# Altium footprint library TI PCB.PCBLIB: 93 footprints (part 4 of 6)
Each footprint in its own frame and in the unit in brackets; x right, y up, seen from the top. Pads: shape width x height; smd on the part's side, far side on the other; paste and mask are expansions set on the pad; w line width, h text height; cw(c..) or ccw(c..) is an arc to the next point about the centre after c.
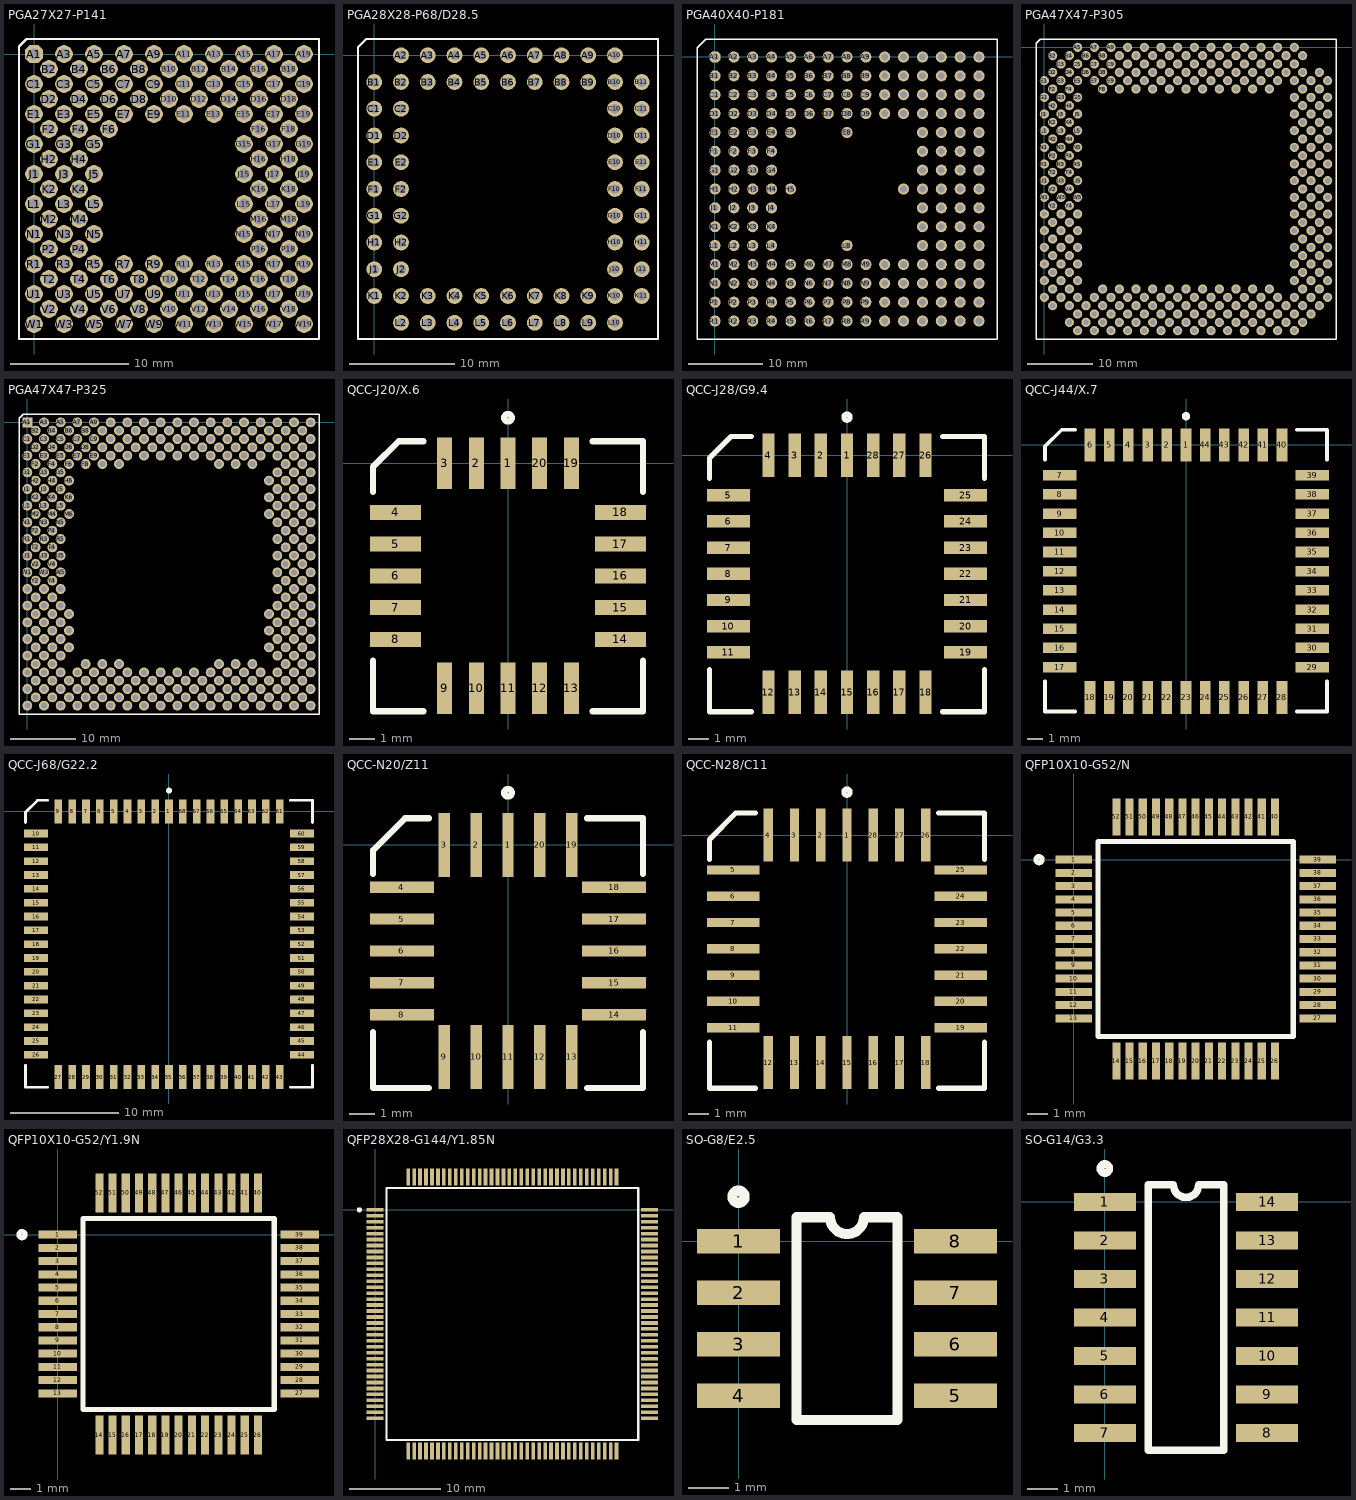
[diagram p3: the footprints below, top view; thin cyan lines are the x and y axes]

## PGA27X27-P141 [mm]
pads (141):
  oct 1.5x1.5 hole 0.9: A1(0,0)
  round 1.5 hole 0.9: A3(2.54,0) A5(5.08,0) A7(7.62,0) A9(10.16,0) A11(12.7,0) A13(15.24,0) A15(17.78,0) A17(20.32,0) A19(22.86,0) B2(1.27,-1.27) B4(3.81,-1.27) B6(6.35,-1.27) B8(8.89,-1.27) B10(11.43,-1.27) B12(13.97,-1.27) B14(16.51,-1.27) B16(19.05,-1.27) B18(21.59,-1.27) C1(0,-2.54) C3(2.54,-2.54) C5(5.08,-2.54) C7(7.62,-2.54) C9(10.16,-2.54) C11(12.7,-2.54) C13(15.24,-2.54) C15(17.78,-2.54) C17(20.32,-2.54) C19(22.86,-2.54) D2(1.27,-3.81) D4(3.81,-3.81) D6(6.35,-3.81) D8(8.89,-3.81) D10(11.43,-3.81) D12(13.97,-3.81) D14(16.51,-3.81) D16(19.05,-3.81) D18(21.59,-3.81) E1(0,-5.08) E3(2.54,-5.08) E5(5.08,-5.08) E7(7.62,-5.08) E9(10.16,-5.08) E11(12.7,-5.08) E13(15.24,-5.08) E15(17.78,-5.08) E17(20.32,-5.08) E19(22.86,-5.08) F2(1.27,-6.35) F4(3.81,-6.35) F6(6.35,-6.35) F16(19.05,-6.35) F18(21.59,-6.35) G1(0,-7.62) G3(2.54,-7.62) G5(5.08,-7.62) G15(17.78,-7.62) G17(20.32,-7.62) G19(22.86,-7.62) H2(1.27,-8.89) H4(3.81,-8.89) H16(19.05,-8.89) H18(21.59,-8.89) J1(0,-10.16) J3(2.54,-10.16) J5(5.08,-10.16) J15(17.78,-10.16) J17(20.32,-10.16) J19(22.86,-10.16) K2(1.27,-11.43) K4(3.81,-11.43) K16(19.05,-11.43) K18(21.59,-11.43) L1(0,-12.7) L3(2.54,-12.7) L5(5.08,-12.7) L15(17.78,-12.7) L17(20.32,-12.7) L19(22.86,-12.7) M2(1.27,-13.97) M4(3.81,-13.97) M16(19.05,-13.97) M18(21.59,-13.97) N1(0,-15.24) N3(2.54,-15.24) N5(5.08,-15.24) N15(17.78,-15.24) N17(20.32,-15.24) N19(22.86,-15.24) P2(1.27,-16.51) P4(3.81,-16.51) P16(19.05,-16.51) P18(21.59,-16.51) R1(0,-17.78) R3(2.54,-17.78) R5(5.08,-17.78) R7(7.62,-17.78) R9(10.16,-17.78) R11(12.7,-17.78) R13(15.24,-17.78) R15(17.78,-17.78) R17(20.32,-17.78) R19(22.86,-17.78) T2(1.27,-19.05) T4(3.81,-19.05) T6(6.35,-19.05) T8(8.89,-19.05) T10(11.43,-19.05) T12(13.97,-19.05) T14(16.51,-19.05) T16(19.05,-19.05) T18(21.59,-19.05) U1(0,-20.32) U3(2.54,-20.32) U5(5.08,-20.32) U7(7.62,-20.32) U9(10.16,-20.32) U11(12.7,-20.32) U13(15.24,-20.32) U15(17.78,-20.32) U17(20.32,-20.32) U19(22.86,-20.32) V2(1.27,-21.59) V4(3.81,-21.59) V6(6.35,-21.59) V8(8.89,-21.59) V10(11.43,-21.59) V12(13.97,-21.59) V14(16.51,-21.59) V16(19.05,-21.59) V18(21.59,-21.59) W1(0,-22.86) W3(2.54,-22.86) W5(5.08,-22.86) W7(7.62,-22.86) W9(10.16,-22.86) W11(12.7,-22.86) W13(15.24,-22.86) W15(17.78,-22.86) W17(20.32,-22.86) W19(22.86,-22.86)
Top Overlay:
  lines w0.2: -1.27,-24.13 -1.27,0.635 -0.635,1.27 24.13,1.27 24.13,-24.13 -1.27,-24.13

## PGA28X28-P68/D28.5 [mm]
pads (68):
  round 1.5 hole 0.9: A2(2.54,0) A3(5.08,0) A4(7.62,0) A5(10.16,0) A6(12.7,0) A7(15.24,0) A8(17.78,0) A9(20.32,0) A10(22.86,0) B1(0,-2.54) B2(2.54,-2.54) B3(5.08,-2.54) B4(7.62,-2.54) B5(10.16,-2.54) B6(12.7,-2.54) B7(15.24,-2.54) B8(17.78,-2.54) B9(20.32,-2.54) B10(22.86,-2.54) B11(25.4,-2.54) C1(0,-5.08) C2(2.54,-5.08) C10(22.86,-5.08) C11(25.4,-5.08) D1(0,-7.62) D2(2.54,-7.62) D10(22.86,-7.62) D11(25.4,-7.62) E1(0,-10.16) E2(2.54,-10.16) E10(22.86,-10.16) E11(25.4,-10.16) F1(0,-12.7) F2(2.54,-12.7) F10(22.86,-12.7) F11(25.4,-12.7) G1(0,-15.24) G2(2.54,-15.24) G10(22.86,-15.24) G11(25.4,-15.24) H1(0,-17.78) H2(2.54,-17.78) H10(22.86,-17.78) H11(25.4,-17.78) J1(0,-20.32) J2(2.54,-20.32) J10(22.86,-20.32) J11(25.4,-20.32) K1(0,-22.86) K2(2.54,-22.86) K3(5.08,-22.86) K4(7.62,-22.86) K5(10.16,-22.86) K6(12.7,-22.86) K7(15.24,-22.86) K8(17.78,-22.86) K9(20.32,-22.86) K10(22.86,-22.86) K11(25.4,-22.86) L2(2.54,-25.4) L3(5.08,-25.4) L4(7.62,-25.4) L5(10.16,-25.4) L6(12.7,-25.4) L7(15.24,-25.4) L8(17.78,-25.4) L9(20.32,-25.4) L10(22.86,-25.4)
Top Overlay:
  lines w0.2: -1.55,-26.95 -1.55,0.775 -0.775,1.55 26.95,1.55 26.95,-26.95 -1.55,-26.95

## PGA40X40-P181 [mm]
pads (181):
  oct 1.5x1.5 hole 0.9: A1(0,0)
  round 1.5 hole 0.9: A2(2.54,0) A3(5.08,0) A4(7.62,0) A5(10.16,0) A6(12.7,0) A7(15.24,0) A8(17.78,0) A9(20.32,0) A10(22.86,0) A11(25.4,0) A12(27.94,0) A13(30.48,0) A14(33.02,0) A15(35.56,0) B1(0,-2.54) B2(2.54,-2.54) B3(5.08,-2.54) B4(7.62,-2.54) B5(10.16,-2.54) B6(12.7,-2.54) B7(15.24,-2.54) B8(17.78,-2.54) B9(20.32,-2.54) B10(22.86,-2.54) B11(25.4,-2.54) B12(27.94,-2.54) B13(30.48,-2.54) B14(33.02,-2.54) B15(35.56,-2.54) C1(0,-5.08) C2(2.54,-5.08) C3(5.08,-5.08) C4(7.62,-5.08) C5(10.16,-5.08) C6(12.7,-5.08) C7(15.24,-5.08) C8(17.78,-5.08) C9(20.32,-5.08) C10(22.86,-5.08) C11(25.4,-5.08) C12(27.94,-5.08) C13(30.48,-5.08) C14(33.02,-5.08) C15(35.56,-5.08) D1(0,-7.62) D2(2.54,-7.62) D3(5.08,-7.62) D4(7.62,-7.62) D5(10.16,-7.62) D6(12.7,-7.62) D7(15.24,-7.62) D8(17.78,-7.62) D9(20.32,-7.62) D10(22.86,-7.62) D11(25.4,-7.62) D12(27.94,-7.62) D13(30.48,-7.62) D14(33.02,-7.62) D15(35.56,-7.62) E1(0,-10.16) E2(2.54,-10.16) E3(5.08,-10.16) E4(7.62,-10.16) E5(10.16,-10.16) E8(17.78,-10.16) E12(27.94,-10.16) E13(30.48,-10.16) E14(33.02,-10.16) E15(35.56,-10.16) F1(0,-12.7) F2(2.54,-12.7) F3(5.08,-12.7) F4(7.62,-12.7) F12(27.94,-12.7) F13(30.48,-12.7) F14(33.02,-12.7) F15(35.56,-12.7) G1(0,-15.24) G2(2.54,-15.24) G3(5.08,-15.24) G4(7.62,-15.24) G12(27.94,-15.24) G13(30.48,-15.24) G14(33.02,-15.24) G15(35.56,-15.24) H1(0,-17.78) H2(2.54,-17.78) H3(5.08,-17.78) H4(7.62,-17.78) H5(10.16,-17.78) H11(25.4,-17.78) H12(27.94,-17.78) H13(30.48,-17.78) H14(33.02,-17.78) H15(35.56,-17.78) J1(0,-20.32) J2(2.54,-20.32) J3(5.08,-20.32) J4(7.62,-20.32) J12(27.94,-20.32) J13(30.48,-20.32) J14(33.02,-20.32) J15(35.56,-20.32) K1(0,-22.86) K2(2.54,-22.86) K3(5.08,-22.86) K4(7.62,-22.86) K12(27.94,-22.86) K13(30.48,-22.86) K14(33.02,-22.86) K15(35.56,-22.86) L1(0,-25.4) L2(2.54,-25.4) L3(5.08,-25.4) L4(7.62,-25.4) L8(17.78,-25.4) L12(27.94,-25.4) L13(30.48,-25.4) L14(33.02,-25.4) L15(35.56,-25.4) M1(0,-27.94) M2(2.54,-27.94) M3(5.08,-27.94) M4(7.62,-27.94) M5(10.16,-27.94) M6(12.7,-27.94) M7(15.24,-27.94) M8(17.78,-27.94) M9(20.32,-27.94) M10(22.86,-27.94) M11(25.4,-27.94) M12(27.94,-27.94) M13(30.48,-27.94) M14(33.02,-27.94) M15(35.56,-27.94) N1(0,-30.48) N2(2.54,-30.48) N3(5.08,-30.48) N4(7.62,-30.48) N5(10.16,-30.48) N6(12.7,-30.48) N7(15.24,-30.48) N8(17.78,-30.48) N9(20.32,-30.48) N10(22.86,-30.48) N11(25.4,-30.48) N12(27.94,-30.48) N13(30.48,-30.48) N14(33.02,-30.48) N15(35.56,-30.48) P1(0,-33.02) P2(2.54,-33.02) P3(5.08,-33.02) P4(7.62,-33.02) P5(10.16,-33.02) P6(12.7,-33.02) P7(15.24,-33.02) P8(17.78,-33.02) P9(20.32,-33.02) P10(22.86,-33.02) P11(25.4,-33.02) P12(27.94,-33.02) P13(30.48,-33.02) P14(33.02,-33.02) P15(35.56,-33.02) R1(0,-35.56) R2(2.54,-35.56) R3(5.08,-35.56) R4(7.62,-35.56) R5(10.16,-35.56) R6(12.7,-35.56) R7(15.24,-35.56) R8(17.78,-35.56) R9(20.32,-35.56) R10(22.86,-35.56) R11(25.4,-35.56) R12(27.94,-35.56) R13(30.48,-35.56) R14(33.02,-35.56) R15(35.56,-35.56)
Top Overlay:
  lines w0.2: -2.42,-37.98 -2.42,1.21 -1.21,2.42 37.98,2.42 37.98,-37.98 -2.42,-37.98

## PGA47X47-P305 [mm]
pads (305):
  round 1.4 hole 0.8: A5(5.08,0) A7(7.62,0) A9(10.16,0) A11(12.7,0) A13(15.24,0) A15(17.78,0) A17(20.32,0) A19(22.86,0) A21(25.4,0) A23(27.94,0) A25(30.48,0) A27(33.02,0) A29(35.56,0) A31(38.1,0) AA1(0,-25.4) AA3(2.54,-25.4) AA5(5.08,-25.4) AA31(38.1,-25.4) AA33(40.64,-25.4) AA35(43.18,-25.4) AB2(1.27,-26.67) AB4(3.81,-26.67) AB32(39.37,-26.67) AB34(41.91,-26.67) AC1(0,-27.94) AC3(2.54,-27.94) AC5(5.08,-27.94) AC31(38.1,-27.94) AC33(40.64,-27.94) AC35(43.18,-27.94) AD2(1.27,-29.21) AD4(3.81,-29.21) AD32(39.37,-29.21) AD34(41.91,-29.21) AE1(0,-30.48) AE3(2.54,-30.48) AE5(5.08,-30.48) AE31(38.1,-30.48) AE33(40.64,-30.48) AE35(43.18,-30.48) AF2(1.27,-31.75) AF4(3.81,-31.75) AF32(39.37,-31.75) AF34(41.91,-31.75) AG1(0,-33.02) AG3(2.54,-33.02) AG5(5.08,-33.02) AG31(38.1,-33.02) AG33(40.64,-33.02) AG35(43.18,-33.02) AH2(1.27,-34.29) AH4(3.81,-34.29) AH32(39.37,-34.29) AH34(41.91,-34.29) AJ1(0,-35.56) AJ3(2.54,-35.56) AJ5(5.08,-35.56) AJ31(38.1,-35.56) AJ33(40.64,-35.56) AJ35(43.18,-35.56) AK2(1.27,-36.83) AK4(3.81,-36.83) AK8(8.89,-36.83) AK10(11.43,-36.83) AK12(13.97,-36.83) AK14(16.51,-36.83) AK16(19.05,-36.83) AK18(21.59,-36.83) AK20(24.13,-36.83) AK22(26.67,-36.83) AK24(29.21,-36.83) AK26(31.75,-36.83) AK28(34.29,-36.83) AK32(39.37,-36.83) AK34(41.91,-36.83) AL1(0,-38.1) AL3(2.54,-38.1) AL5(5.08,-38.1) AL7(7.62,-38.1) AL9(10.16,-38.1) AL11(12.7,-38.1) AL13(15.24,-38.1) AL15(17.78,-38.1) AL17(20.32,-38.1) AL19(22.86,-38.1) AL21(25.4,-38.1) AL23(27.94,-38.1) AL25(30.48,-38.1) AL27(33.02,-38.1) AL29(35.56,-38.1) AL31(38.1,-38.1) AL33(40.64,-38.1) AL35(43.18,-38.1) AM2(1.27,-39.37) AM4(3.81,-39.37) AM6(6.35,-39.37) AM8(8.89,-39.37) AM10(11.43,-39.37) AM12(13.97,-39.37) AM14(16.51,-39.37) AM16(19.05,-39.37) AM18(21.59,-39.37) AM20(24.13,-39.37) AM22(26.67,-39.37) AM24(29.21,-39.37) AM26(31.75,-39.37) AM28(34.29,-39.37) AM30(36.83,-39.37) AM32(39.37,-39.37) AM34(41.91,-39.37) AN5(5.08,-40.64) AN7(7.62,-40.64) AN9(10.16,-40.64) AN11(12.7,-40.64) AN13(15.24,-40.64) AN15(17.78,-40.64) AN17(20.32,-40.64) AN19(22.86,-40.64) AN21(25.4,-40.64) AN23(27.94,-40.64) AN25(30.48,-40.64) AN27(33.02,-40.64) AN29(35.56,-40.64) AN31(38.1,-40.64) AN33(40.64,-40.64) AP4(3.81,-41.91) AP6(6.35,-41.91) AP8(8.89,-41.91) AP10(11.43,-41.91) AP12(13.97,-41.91) AP14(16.51,-41.91) AP16(19.05,-41.91) AP18(21.59,-41.91) AP20(24.13,-41.91) AP22(26.67,-41.91) AP24(29.21,-41.91) AP26(31.75,-41.91) AP28(34.29,-41.91) AP30(36.83,-41.91) AP32(39.37,-41.91) AR5(5.08,-43.18) AR7(7.62,-43.18) AR9(10.16,-43.18) AR11(12.7,-43.18) AR13(15.24,-43.18) AR15(17.78,-43.18) AR17(20.32,-43.18) AR19(22.86,-43.18) AR21(25.4,-43.18) AR23(27.94,-43.18) AR25(30.48,-43.18) AR27(33.02,-43.18) AR29(35.56,-43.18) AR31(38.1,-43.18) B2(1.27,-1.27) B4(3.81,-1.27) B6(6.35,-1.27) B8(8.89,-1.27) B10(11.43,-1.27) B12(13.97,-1.27) B14(16.51,-1.27) B16(19.05,-1.27) B18(21.59,-1.27) B20(24.13,-1.27) B22(26.67,-1.27) B24(29.21,-1.27) B26(31.75,-1.27) B28(34.29,-1.27) B30(36.83,-1.27) B32(39.37,-1.27) C3(2.54,-2.54) C5(5.08,-2.54) C7(7.62,-2.54) C9(10.16,-2.54) C11(12.7,-2.54) C13(15.24,-2.54) C15(17.78,-2.54) C17(20.32,-2.54) C19(22.86,-2.54) C21(25.4,-2.54) C23(27.94,-2.54) C25(30.48,-2.54) C27(33.02,-2.54) C29(35.56,-2.54) C31(38.1,-2.54) D2(1.27,-3.81) D4(3.81,-3.81) D6(6.35,-3.81) D8(8.89,-3.81) D10(11.43,-3.81) D12(13.97,-3.81) D14(16.51,-3.81) D16(19.05,-3.81) D18(21.59,-3.81) D20(24.13,-3.81) D22(26.67,-3.81) D24(29.21,-3.81) D26(31.75,-3.81) D28(34.29,-3.81) D30(36.83,-3.81) D32(39.37,-3.81) D34(41.91,-3.81) E1(0,-5.08) E3(2.54,-5.08) E5(5.08,-5.08) E7(7.62,-5.08) E9(10.16,-5.08) E11(12.7,-5.08) E13(15.24,-5.08) E15(17.78,-5.08) E17(20.32,-5.08) E19(22.86,-5.08) E21(25.4,-5.08) E23(27.94,-5.08) E25(30.48,-5.08) E27(33.02,-5.08) E29(35.56,-5.08) E31(38.1,-5.08) E33(40.64,-5.08) E35(43.18,-5.08) F2(1.27,-6.35) F4(3.81,-6.35) F8(8.89,-6.35) F10(11.43,-6.35) F12(13.97,-6.35) F14(16.51,-6.35) F16(19.05,-6.35) F18(21.59,-6.35) F20(24.13,-6.35) F22(26.67,-6.35) F24(29.21,-6.35) F26(31.75,-6.35) F28(34.29,-6.35) F32(39.37,-6.35) F34(41.91,-6.35) G1(0,-7.62) G3(2.54,-7.62) G5(5.08,-7.62) G31(38.1,-7.62) G33(40.64,-7.62) G35(43.18,-7.62) H2(1.27,-8.89) H4(3.81,-8.89) H32(39.37,-8.89) H34(41.91,-8.89) J1(0,-10.16) J3(2.54,-10.16) J5(5.08,-10.16) J31(38.1,-10.16) J33(40.64,-10.16) J35(43.18,-10.16) K2(1.27,-11.43) K4(3.81,-11.43) K32(39.37,-11.43) K34(41.91,-11.43) L1(0,-12.7) L3(2.54,-12.7) L5(5.08,-12.7) L31(38.1,-12.7) L33(40.64,-12.7) L35(43.18,-12.7) M2(1.27,-13.97) M4(3.81,-13.97) M32(39.37,-13.97) M34(41.91,-13.97) N1(0,-15.24) N3(2.54,-15.24) N5(5.08,-15.24) N31(38.1,-15.24) N33(40.64,-15.24) N35(43.18,-15.24) P2(1.27,-16.51) P4(3.81,-16.51) P32(39.37,-16.51) P34(41.91,-16.51) R1(0,-17.78) R3(2.54,-17.78) R5(5.08,-17.78) R31(38.1,-17.78) R33(40.64,-17.78) R35(43.18,-17.78) T2(1.27,-19.05) T4(3.81,-19.05) T32(39.37,-19.05) T34(41.91,-19.05) U1(0,-20.32) U3(2.54,-20.32) U5(5.08,-20.32) U31(38.1,-20.32) U33(40.64,-20.32) U35(43.18,-20.32) V2(1.27,-21.59) V4(3.81,-21.59) V32(39.37,-21.59) V34(41.91,-21.59) W1(0,-22.86) W3(2.54,-22.86) W5(5.08,-22.86) W31(38.1,-22.86) W33(40.64,-22.86) W35(43.18,-22.86) Y2(1.27,-24.13) Y4(3.81,-24.13) Y32(39.37,-24.13) Y34(41.91,-24.13)
Top Overlay:
  lines w0.2: -1.27,-44.45 -1.27,0.635 -0.635,1.27 44.45,1.27 44.45,-44.45 -1.27,-44.45

## PGA47X47-P325 [mm]
pads (325):
  rect 1.5x1.5 hole 0.9: A1(0,0)
  round 1.5 hole 0.9: A3(2.54,0) A5(5.08,0) A7(7.62,0) A9(10.16,0) A11(12.7,0) A13(15.24,0) A15(17.78,0) A17(20.32,0) A19(22.86,0) A21(25.4,0) A23(27.94,0) A25(30.48,0) A27(33.02,0) A29(35.56,0) A31(38.1,0) A33(40.64,0) A35(43.18,0) AA1(0,-25.4) AA3(2.54,-25.4) AA5(5.08,-25.4) AA31(38.1,-25.4) AA33(40.64,-25.4) AA35(43.18,-25.4) AB2(1.27,-26.67) AB4(3.81,-26.67) AB32(39.37,-26.67) AB34(41.91,-26.67) AC1(0,-27.94) AC3(2.54,-27.94) AC5(5.08,-27.94) AC31(38.1,-27.94) AC33(40.64,-27.94) AC35(43.18,-27.94) AD2(1.27,-29.21) AD4(3.81,-29.21) AD6(6.35,-29.21) AD30(36.83,-29.21) AD32(39.37,-29.21) AD34(41.91,-29.21) AE1(0,-30.48) AE3(2.54,-30.48) AE5(5.08,-30.48) AE31(38.1,-30.48) AE33(40.64,-30.48) AE35(43.18,-30.48) AF2(1.27,-31.75) AF4(3.81,-31.75) AF6(6.35,-31.75) AF30(36.83,-31.75) AF32(39.37,-31.75) AF34(41.91,-31.75) AG1(0,-33.02) AG3(2.54,-33.02) AG5(5.08,-33.02) AG31(38.1,-33.02) AG33(40.64,-33.02) AG35(43.18,-33.02) AH2(1.27,-34.29) AH4(3.81,-34.29) AH6(6.35,-34.29) AH30(36.83,-34.29) AH32(39.37,-34.29) AH34(41.91,-34.29) AJ1(0,-35.56) AJ3(2.54,-35.56) AJ5(5.08,-35.56) AJ31(38.1,-35.56) AJ33(40.64,-35.56) AJ35(43.18,-35.56) AK2(1.27,-36.83) AK4(3.81,-36.83) AK8(8.89,-36.83) AK10(11.43,-36.83) AK12(13.97,-36.83) AK24(29.21,-36.83) AK26(31.75,-36.83) AK28(34.29,-36.83) AK32(39.37,-36.83) AK34(41.91,-36.83) AL1(0,-38.1) AL3(2.54,-38.1) AL5(5.08,-38.1) AL7(7.62,-38.1) AL9(10.16,-38.1) AL11(12.7,-38.1) AL13(15.24,-38.1) AL15(17.78,-38.1) AL17(20.32,-38.1) AL19(22.86,-38.1) AL21(25.4,-38.1) AL23(27.94,-38.1) AL25(30.48,-38.1) AL27(33.02,-38.1) AL29(35.56,-38.1) AL31(38.1,-38.1) AL33(40.64,-38.1) AL35(43.18,-38.1) AM2(1.27,-39.37) AM4(3.81,-39.37) AM6(6.35,-39.37) AM8(8.89,-39.37) AM10(11.43,-39.37) AM12(13.97,-39.37) AM14(16.51,-39.37) AM16(19.05,-39.37) AM18(21.59,-39.37) AM20(24.13,-39.37) AM22(26.67,-39.37) AM24(29.21,-39.37) AM26(31.75,-39.37) AM28(34.29,-39.37) AM30(36.83,-39.37) AM32(39.37,-39.37) AM34(41.91,-39.37) AN1(0,-40.64) AN3(2.54,-40.64) AN5(5.08,-40.64) AN7(7.62,-40.64) AN9(10.16,-40.64) AN11(12.7,-40.64) AN13(15.24,-40.64) AN15(17.78,-40.64) AN17(20.32,-40.64) AN19(22.86,-40.64) AN21(25.4,-40.64) AN23(27.94,-40.64) AN25(30.48,-40.64) AN27(33.02,-40.64) AN29(35.56,-40.64) AN31(38.1,-40.64) AN33(40.64,-40.64) AN35(43.18,-40.64) AP2(1.27,-41.91) AP4(3.81,-41.91) AP6(6.35,-41.91) AP8(8.89,-41.91) AP10(11.43,-41.91) AP12(13.97,-41.91) AP14(16.51,-41.91) AP16(19.05,-41.91) AP18(21.59,-41.91) AP20(24.13,-41.91) AP22(26.67,-41.91) AP24(29.21,-41.91) AP26(31.75,-41.91) AP28(34.29,-41.91) AP30(36.83,-41.91) AP32(39.37,-41.91) AP34(41.91,-41.91) AR1(0,-43.18) AR3(2.54,-43.18) AR5(5.08,-43.18) AR7(7.62,-43.18) AR9(10.16,-43.18) AR11(12.7,-43.18) AR13(15.24,-43.18) AR15(17.78,-43.18) AR17(20.32,-43.18) AR19(22.86,-43.18) AR21(25.4,-43.18) AR23(27.94,-43.18) AR25(30.48,-43.18) AR27(33.02,-43.18) AR29(35.56,-43.18) AR31(38.1,-43.18) AR33(40.64,-43.18) AR35(43.18,-43.18) B2(1.27,-1.27) B4(3.81,-1.27) B6(6.35,-1.27) B8(8.89,-1.27) B10(11.43,-1.27) B12(13.97,-1.27) B14(16.51,-1.27) B16(19.05,-1.27) B18(21.59,-1.27) B20(24.13,-1.27) B22(26.67,-1.27) B24(29.21,-1.27) B26(31.75,-1.27) B28(34.29,-1.27) B30(36.83,-1.27) B32(39.37,-1.27) B34(41.91,-1.27) C1(0,-2.54) C3(2.54,-2.54) C5(5.08,-2.54) C7(7.62,-2.54) C9(10.16,-2.54) C11(12.7,-2.54) C13(15.24,-2.54) C15(17.78,-2.54) C17(20.32,-2.54) C19(22.86,-2.54) C21(25.4,-2.54) C23(27.94,-2.54) C25(30.48,-2.54) C27(33.02,-2.54) C29(35.56,-2.54) C31(38.1,-2.54) C33(40.64,-2.54) C35(43.18,-2.54) D2(1.27,-3.81) D4(3.81,-3.81) D6(6.35,-3.81) D8(8.89,-3.81) D10(11.43,-3.81) D12(13.97,-3.81) D14(16.51,-3.81) D16(19.05,-3.81) D18(21.59,-3.81) D20(24.13,-3.81) D22(26.67,-3.81) D24(29.21,-3.81) D26(31.75,-3.81) D28(34.29,-3.81) D30(36.83,-3.81) D32(39.37,-3.81) D34(41.91,-3.81) E1(0,-5.08) E3(2.54,-5.08) E5(5.08,-5.08) E7(7.62,-5.08) E9(10.16,-5.08) E11(12.7,-5.08) E13(15.24,-5.08) E15(17.78,-5.08) E17(20.32,-5.08) E19(22.86,-5.08) E21(25.4,-5.08) E23(27.94,-5.08) E25(30.48,-5.08) E27(33.02,-5.08) E29(35.56,-5.08) E31(38.1,-5.08) E33(40.64,-5.08) E35(43.18,-5.08) F2(1.27,-6.35) F4(3.81,-6.35) F6(6.35,-6.35) F8(8.89,-6.35) F10(11.43,-6.35) F12(13.97,-6.35) F24(29.21,-6.35) F26(31.75,-6.35) F28(34.29,-6.35) F32(39.37,-6.35) F34(41.91,-6.35) G1(0,-7.62) G3(2.54,-7.62) G5(5.08,-7.62) G31(38.1,-7.62) G33(40.64,-7.62) G35(43.18,-7.62) H2(1.27,-8.89) H4(3.81,-8.89) H6(6.35,-8.89) H30(36.83,-8.89) H32(39.37,-8.89) H34(41.91,-8.89) J1(0,-10.16) J3(2.54,-10.16) J5(5.08,-10.16) J31(38.1,-10.16) J33(40.64,-10.16) J35(43.18,-10.16) K2(1.27,-11.43) K4(3.81,-11.43) K6(6.35,-11.43) K30(36.83,-11.43) K32(39.37,-11.43) K34(41.91,-11.43) L1(0,-12.7) L3(2.54,-12.7) L5(5.08,-12.7) L31(38.1,-12.7) L33(40.64,-12.7) L35(43.18,-12.7) M2(1.27,-13.97) M4(3.81,-13.97) M6(6.35,-13.97) M30(36.83,-13.97) M32(39.37,-13.97) M34(41.91,-13.97) N1(0,-15.24) N3(2.54,-15.24) N5(5.08,-15.24) N31(38.1,-15.24) N33(40.64,-15.24) N35(43.18,-15.24) P2(1.27,-16.51) P4(3.81,-16.51) P32(39.37,-16.51) P34(41.91,-16.51) R1(0,-17.78) R3(2.54,-17.78) R5(5.08,-17.78) R31(38.1,-17.78) R33(40.64,-17.78) R35(43.18,-17.78) T2(1.27,-19.05) T4(3.81,-19.05) T32(39.37,-19.05) T34(41.91,-19.05) U1(0,-20.32) U3(2.54,-20.32) U5(5.08,-20.32) U31(38.1,-20.32) U33(40.64,-20.32) U35(43.18,-20.32) V2(1.27,-21.59) V4(3.81,-21.59) V32(39.37,-21.59) V34(41.91,-21.59) W1(0,-22.86) W3(2.54,-22.86) W5(5.08,-22.86) W31(38.1,-22.86) W33(40.64,-22.86) W35(43.18,-22.86) Y2(1.27,-24.13) Y4(3.81,-24.13) Y32(39.37,-24.13) Y34(41.91,-24.13)
Top Overlay:
  lines w0.2: -1.27,-44.45 44.45,-44.45 44.45,1.27 -0.635,1.27 -1.27,0.635 -1.27,-44.45

## QCC-J20/X.6 [mm]
pads (20):
  rect 0.6x2.05 smd: 1(0,0) 2(-1.27,0) 3(-2.54,0) 9(-2.54,-9) 10(-1.27,-9) 11(0,-9) 12(1.27,-9) 13(2.54,-9) 19(2.54,0) 20(1.27,0)
  rect 2.05x0.6 smd: 4(-4.5,-1.96) 5(-4.5,-3.23) 6(-4.5,-4.5) 7(-4.5,-5.77) 8(-4.5,-7.04) 14(4.5,-7.04) 15(4.5,-5.77) 16(4.5,-4.5) 17(4.5,-3.23) 18(4.5,-1.96)
Top Overlay:
  circle w0.25: c0,1.825 r0.15
  lines w0.25: -5.4,-7.887 -5.4,-9.913 -3.375,-9.913 ; -5.4,-1.137 -5.4,-0.137 -4.375,0.888 -3.375,0.888 ; 3.375,-9.913 5.4,-9.913 5.4,-7.887 ; 3.375,0.888 5.4,0.888 5.4,-1.137

## QCC-J28/G9.4 [mm]
pads (28):
  rect 0.6x2.1 smd: 1(0,0) 2(-1.27,0) 3(-2.54,0) 4(-3.81,0) 12(-3.81,-11.5) 13(-2.54,-11.5) 14(-1.27,-11.5) 15(0,-11.5) 16(1.27,-11.5) 17(2.54,-11.5) 18(3.81,-11.5) 26(3.81,0) 27(2.54,0) 28(1.27,0)
  rect 2.1x0.6 smd: 5(-5.75,-1.94) 6(-5.75,-3.21) 7(-5.75,-4.48) 8(-5.75,-5.75) 9(-5.75,-7.02) 10(-5.75,-8.29) 11(-5.75,-9.56) 19(5.75,-9.56) 20(5.75,-8.29) 21(5.75,-7.02) 22(5.75,-5.75) 23(5.75,-4.48) 24(5.75,-3.21) 25(5.75,-1.94)
Top Overlay:
  circle w0.25: c0,1.85 r0.15
  lines w0.25: -6.675,-10.407 -6.675,-12.437 -4.645,-12.437 ; -6.675,-1.117 -6.675,-0.137 -5.625,0.912 -4.645,0.912 ; 4.645,-12.437 6.675,-12.437 6.675,-10.407 ; 4.645,0.912 6.675,0.912 6.675,-1.117

## QCC-J44/X.7 [mm]
pads (44):
  rect 0.7x2.2 smd: 1(0,0) 2(-1.27,0) 3(-2.54,0) 4(-3.81,0) 5(-5.08,0) 6(-6.35,0) 18(-6.35,-16.7) 19(-5.08,-16.7) 20(-3.81,-16.7) 21(-2.54,-16.7) 22(-1.27,-16.7) 23(0,-16.7) 24(1.27,-16.7) 25(2.54,-16.7) 26(3.81,-16.7) 27(5.08,-16.7) 28(6.35,-16.7) 40(6.35,0) 41(5.08,0) 42(3.81,0) 43(2.54,0) 44(1.27,0)
  rect 2.2x0.7 smd: 7(-8.35,-2) 8(-8.35,-3.27) 9(-8.35,-4.54) 10(-8.35,-5.81) 11(-8.35,-7.08) 12(-8.35,-8.35) 13(-8.35,-9.62) 14(-8.35,-10.89) 15(-8.35,-12.16) 16(-8.35,-13.43) 17(-8.35,-14.7) 29(8.35,-14.7) 30(8.35,-13.43) 31(8.35,-12.16) 32(8.35,-10.89) 33(8.35,-9.62) 34(8.35,-8.35) 35(8.35,-7.08) 36(8.35,-5.81) 37(8.35,-4.54) 38(8.35,-3.27) 39(8.35,-2)
Top Overlay:
  circle w0.25: c0,1.9 r0.15
  lines w0.25: -9.325,-15.647 -9.325,-17.638 -7.335,-17.638 ; -9.325,-0.977 -9.325,-0.088 -8.225,1.012 -7.335,1.012 ; 7.335,-17.638 9.325,-17.638 9.325,-15.647 ; 7.335,1.012 9.325,1.012 9.325,-0.977

## QCC-J68/G22.2 [mm]
pads (68):
  rect 0.7x2.2 smd: 1(0,0) 2(-1.27,0) 3(-2.54,0) 4(-3.81,0) 5(-5.08,0) 6(-6.35,0) 7(-7.62,0) 8(-8.89,0) 9(-10.16,0) 27(-10.16,-24.4) 28(-8.89,-24.4) 29(-7.62,-24.4) 30(-6.35,-24.4) 31(-5.08,-24.4) 32(-3.81,-24.4) 33(-2.54,-24.4) 34(-1.27,-24.4) 35(0,-24.4) 36(1.27,-24.4) 37(2.54,-24.4) 38(3.81,-24.4) 39(5.08,-24.4) 40(6.35,-24.4) 41(7.62,-24.4) 42(8.89,-24.4) 43(10.16,-24.4) 61(10.16,0) 62(8.89,0) 63(7.62,0) 64(6.35,0) 65(5.08,0) 66(3.81,0) 67(2.54,0) 68(1.27,0)
  rect 2.2x0.7 smd: 10(-12.2,-2.04) 11(-12.2,-3.31) 12(-12.2,-4.58) 13(-12.2,-5.85) 14(-12.2,-7.12) 15(-12.2,-8.39) 16(-12.2,-9.66) 17(-12.2,-10.93) 18(-12.2,-12.2) 19(-12.2,-13.47) 20(-12.2,-14.74) 21(-12.2,-16.01) 22(-12.2,-17.28) 23(-12.2,-18.55) 24(-12.2,-19.82) 25(-12.2,-21.09) 26(-12.2,-22.36) 44(12.2,-22.36) 45(12.2,-21.09) 46(12.2,-19.82) 47(12.2,-18.55) 48(12.2,-17.28) 49(12.2,-16.01) 50(12.2,-14.74) 51(12.2,-13.47) 52(12.2,-12.2) 53(12.2,-10.93) 54(12.2,-9.66) 55(12.2,-8.39) 56(12.2,-7.12) 57(12.2,-5.85) 58(12.2,-4.58) 59(12.2,-3.31) 60(12.2,-2.04)
Top Overlay:
  circle w0.25: c0,1.9 r0.15
  lines w0.25: -13.175,-23.307 -13.175,-25.337 -11.145,-25.337 ; -13.175,-1.017 -13.175,-0.088 -12.075,1.012 -11.145,1.012 ; 11.145,-25.337 13.175,-25.337 13.175,-23.307 ; 11.145,1.012 13.175,1.012 13.175,-1.017

## QCC-N20/Z11 [mm]
pads (20):
  rect 0.45x2.55 smd: 1(0,0) 2(-1.27,0) 3(-2.54,0) 9(-2.54,-8.45) 10(-1.27,-8.45) 11(0,-8.45) 12(1.27,-8.45) 13(2.54,-8.45) 19(2.54,0) 20(1.27,0)
  rect 2.55x0.45 smd: 4(-4.225,-1.685) 5(-4.225,-2.955) 6(-4.225,-4.225) 7(-4.225,-5.495) 8(-4.225,-6.765) 14(4.225,-6.765) 15(4.225,-5.495) 16(4.225,-4.225) 17(4.225,-2.955) 18(4.225,-1.685)
Top Overlay:
  circle w0.25: c0,2.075 r0.15
  lines w0.25: -5.375,-7.462 -5.375,-9.688 -3.15,-9.688 ; -5.375,-1.163 -5.375,-0.212 -4.1,1.063 -3.15,1.063 ; 3.15,-9.688 5.375,-9.688 5.375,-7.462 ; 3.15,1.063 5.375,1.063 5.375,-1.163

## QCC-N28/C11 [mm]
pads (28):
  rect 0.45x2.55 smd: 1(0,0) 2(-1.27,0) 3(-2.54,0) 4(-3.81,0) 12(-3.81,-11) 13(-2.54,-11) 14(-1.27,-11) 15(0,-11) 16(1.27,-11) 17(2.54,-11) 18(3.81,-11) 26(3.81,0) 27(2.54,0) 28(1.27,0)
  rect 2.55x0.45 smd: 5(-5.5,-1.69) 6(-5.5,-2.96) 7(-5.5,-4.23) 8(-5.5,-5.5) 9(-5.5,-6.77) 10(-5.5,-8.04) 11(-5.5,-9.31) 19(5.5,-9.31) 20(5.5,-8.04) 21(5.5,-6.77) 22(5.5,-5.5) 23(5.5,-4.23) 24(5.5,-2.96) 25(5.5,-1.69)
Top Overlay:
  circle w0.25: c0,2.075 r0.15
  lines w0.25: -6.65,-10.007 -6.65,-12.237 -4.42,-12.237 ; -6.65,-1.168 -6.65,-0.212 -5.375,1.063 -4.42,1.063 ; 4.42,-12.237 6.65,-12.237 6.65,-10.007 ; 4.42,1.063 6.65,1.063 6.65,-1.168

## QFP10X10-G52/N [mm]
pads (52):
  rect 1.8x0.4 smd: 1(0,0) 2(0,-0.65) 3(0,-1.3) 4(0,-1.95) 5(0,-2.6) 6(0,-3.25) 7(0,-3.9) 8(0,-4.55) 9(0,-5.2) 10(0,-5.85) 11(0,-6.5) 12(0,-7.15) 13(0,-7.8) 27(12,-7.8) 28(12,-7.15) 29(12,-6.5) 30(12,-5.85) 31(12,-5.2) 32(12,-4.55) 33(12,-3.9) 34(12,-3.25) 35(12,-2.6) 36(12,-1.95) 37(12,-1.3) 38(12,-0.65) 39(12,0)
  rect 0.4x1.8 smd: 14(2.1,-9.9) 15(2.75,-9.9) 16(3.4,-9.9) 17(4.05,-9.9) 18(4.7,-9.9) 19(5.35,-9.9) 20(6,-9.9) 21(6.65,-9.9) 22(7.3,-9.9) 23(7.95,-9.9) 24(8.6,-9.9) 25(9.25,-9.9) 26(9.9,-9.9) 40(9.9,2.1) 41(9.25,2.1) 42(8.6,2.1) 43(7.95,2.1) 44(7.3,2.1) 45(6.65,2.1) 46(6,2.1) 47(5.35,2.1) 48(4.7,2.1) 49(4.05,2.1) 50(3.4,2.1) 51(2.75,2.1) 52(2.1,2.1)
Top Overlay:
  circle w0.25: c-1.7,0 r0.15
  lines w0.25: 1.2,-8.7 1.2,0.9 10.8,0.9 10.8,-8.7 1.2,-8.7

## QFP10X10-G52/Y1.9N [mm]
pads (52):
  rect 1.9x0.4 smd: 1(0,0) 2(0,-0.65) 3(0,-1.3) 4(0,-1.95) 5(0,-2.6) 6(0,-3.25) 7(0,-3.9) 8(0,-4.55) 9(0,-5.2) 10(0,-5.85) 11(0,-6.5) 12(0,-7.15) 13(0,-7.8) 27(11.9,-7.8) 28(11.9,-7.15) 29(11.9,-6.5) 30(11.9,-5.85) 31(11.9,-5.2) 32(11.9,-4.55) 33(11.9,-3.9) 34(11.9,-3.25) 35(11.9,-2.6) 36(11.9,-1.95) 37(11.9,-1.3) 38(11.9,-0.65) 39(11.9,0)
  rect 0.4x1.9 smd: 14(2.05,-9.85) 15(2.7,-9.85) 16(3.35,-9.85) 17(4,-9.85) 18(4.65,-9.85) 19(5.3,-9.85) 20(5.95,-9.85) 21(6.6,-9.85) 22(7.25,-9.85) 23(7.9,-9.85) 24(8.55,-9.85) 25(9.2,-9.85) 26(9.85,-9.85) 40(9.85,2.05) 41(9.2,2.05) 42(8.55,2.05) 43(7.9,2.05) 44(7.25,2.05) 45(6.6,2.05) 46(5.95,2.05) 47(5.3,2.05) 48(4.65,2.05) 49(4,2.05) 50(3.35,2.05) 51(2.7,2.05) 52(2.05,2.05)
Top Overlay:
  circle w0.25: c-1.75,0 r0.15
  lines w0.25: 1.25,-8.6 10.65,-8.6 10.65,0.8 1.25,0.8 1.25,-8.6

## QFP28X28-G144/Y1.85N [mm]
pads (144):
  rect 1.85x0.4 smd: 1(0,0) 2(0,-0.65) 3(0,-1.3) 4(0,-1.95) 5(0,-2.6) 6(0,-3.25) 7(0,-3.9) 8(0,-4.55) 9(0,-5.2) 10(0,-5.85) 11(0,-6.5) 12(0,-7.15) 13(0,-7.8) 14(0,-8.45) 15(0,-9.1) 16(0,-9.75) 17(0,-10.4) 18(0,-11.05) 19(0,-11.7) 20(0,-12.35) 21(0,-13) 22(0,-13.65) 23(0,-14.3) 24(0,-14.95) 25(0,-15.6) 26(0,-16.25) 27(0,-16.9) 28(0,-17.55) 29(0,-18.2) 30(0,-18.85) 31(0,-19.5) 32(0,-20.15) 33(0,-20.8) 34(0,-21.45) 35(0,-22.1) 36(0,-22.75) 73(29.95,-22.75) 74(29.95,-22.1) 75(29.95,-21.45) 76(29.95,-20.8) 77(29.95,-20.15) 78(29.95,-19.5) 79(29.95,-18.85) 80(29.95,-18.2) 81(29.95,-17.55) 82(29.95,-16.9) 83(29.95,-16.25) 84(29.95,-15.6) 85(29.95,-14.95) 86(29.95,-14.3) 87(29.95,-13.65) 88(29.95,-13) 89(29.95,-12.35) 90(29.95,-11.7) 91(29.95,-11.05) 92(29.95,-10.4) 93(29.95,-9.75) 94(29.95,-9.1) 95(29.95,-8.45) 96(29.95,-7.8) 97(29.95,-7.15) 98(29.95,-6.5) 99(29.95,-5.85) 100(29.95,-5.2) 101(29.95,-4.55) 102(29.95,-3.9) 103(29.95,-3.25) 104(29.95,-2.6) 105(29.95,-1.95) 106(29.95,-1.3) 107(29.95,-0.65) 108(29.95,0)
  rect 0.4x1.85 smd: 37(3.6,-26.35) 38(4.25,-26.35) 39(4.9,-26.35) 40(5.55,-26.35) 41(6.2,-26.35) 42(6.85,-26.35) 43(7.5,-26.35) 44(8.15,-26.35) 45(8.8,-26.35) 46(9.45,-26.35) 47(10.1,-26.35) 48(10.75,-26.35) 49(11.4,-26.35) 50(12.05,-26.35) 51(12.7,-26.35) 52(13.35,-26.35) 53(14,-26.35) 54(14.65,-26.35) 55(15.3,-26.35) 56(15.95,-26.35) 57(16.6,-26.35) 58(17.25,-26.35) 59(17.9,-26.35) 60(18.55,-26.35) 61(19.2,-26.35) 62(19.85,-26.35) 63(20.5,-26.35) 64(21.15,-26.35) 65(21.8,-26.35) 66(22.45,-26.35) 67(23.1,-26.35) 68(23.75,-26.35) 69(24.4,-26.35) 70(25.05,-26.35) 71(25.7,-26.35) 72(26.35,-26.35) 109(26.35,3.6) 110(25.7,3.6) 111(25.05,3.6) 112(24.4,3.6) 113(23.75,3.6) 114(23.1,3.6) 115(22.45,3.6) 116(21.8,3.6) 117(21.15,3.6) 118(20.5,3.6) 119(19.85,3.6) 120(19.2,3.6) 121(18.55,3.6) 122(17.9,3.6) 123(17.25,3.6) 124(16.6,3.6) 125(15.95,3.6) 126(15.3,3.6) 127(14.65,3.6) 128(14,3.6) 129(13.35,3.6) 130(12.7,3.6) 131(12.05,3.6) 132(11.4,3.6) 133(10.75,3.6) 134(10.1,3.6) 135(9.45,3.6) 136(8.8,3.6) 137(8.15,3.6) 138(7.5,3.6) 139(6.85,3.6) 140(6.2,3.6) 141(5.55,3.6) 142(4.9,3.6) 143(4.25,3.6) 144(3.6,3.6)
Top Overlay:
  circle w0.25: c-1.725,0 r0.15
  lines w0.25: 1.225,-25.125 28.725,-25.125 28.725,2.375 1.225,2.375 1.225,-25.125

## SO-G8/E2.5 [mm]
pads (8):
  rect 2.05x0.6 smd: 1(0,0) 2(0,-1.27) 3(0,-2.54) 4(0,-3.81) 5(5.35,-3.81) 6(5.35,-2.54) 7(5.35,-1.27) 8(5.35,0)
Top Overlay:
  circle w0.25: c0,1.1 r0.15
  lines w0.25: 2.258,0.595 1.425,0.595 1.425,-4.405 3.925,-4.405 3.925,0.595 3.092,0.595 cw(c2.675,0.595) 2.258,0.595

## SO-G14/G3.3 [mm]
pads (14):
  rect 2.05x0.6 smd: 1(0,0) 2(0,-1.27) 3(0,-2.54) 4(0,-3.81) 5(0,-5.08) 6(0,-6.35) 7(0,-7.62) 8(5.35,-7.62) 9(5.35,-6.35) 10(5.35,-5.08) 11(5.35,-3.81) 12(5.35,-2.54) 13(5.35,-1.27) 14(5.35,0)
Top Overlay:
  circle w0.25: c0,1.1 r0.15
  lines w0.25: 1.425,-8.185 1.425,0.565 2.258,0.565 ccw(c2.675,0.565) 3.092,0.565 3.925,0.565 3.925,-8.185 1.425,-8.185